# EAGLE library part 74HC139 (library Bauteile)
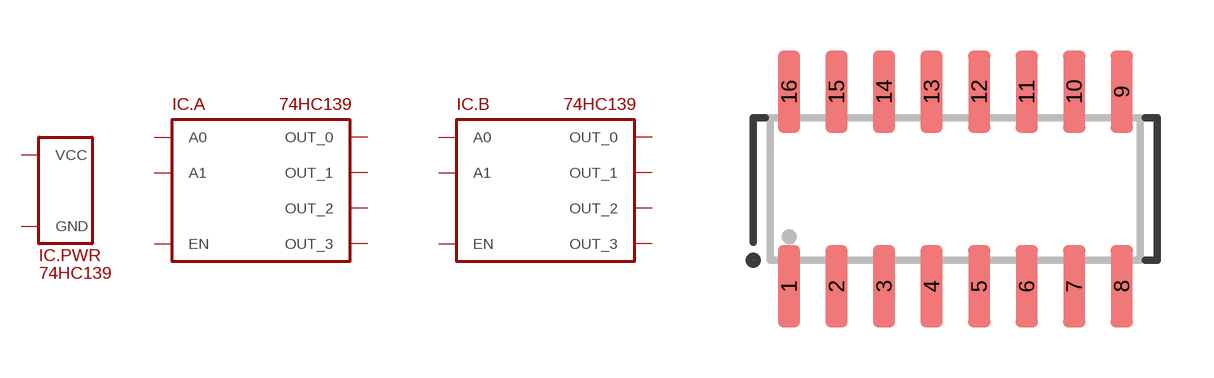
[diagram p67: symbol with the pads of SO16; footprint SO16]

Designator prefix IC; gates .PWR=SUPPLY_VCC/GND .A=DEMULTIPLEXER_1_TO_4 .B=DEMULTIPLEXER_1_TO_4

## 74HC139  [SO16]
1  .A:EN
2  .A:A0
3  .A:A1
4  .A:OUT_0
5  .A:OUT_1
6  .A:OUT_2
7  .A:OUT_3
8  .PWR:GND
9  .B:OUT_3
10  .B:OUT_2
11  .B:OUT_1
12  .B:OUT_0
13  .B:A1
14  .B:A0
15  .B:EN
16  .PWR:VCC

## Footprint SO16 (pad centres in mm)
smd 0.6 x 2.2: 1 -4.445,-2.6; 2 -3.175,-2.6; 3 -1.905,-2.6; 4 -0.635,-2.6; 5 0.635,-2.6; 6 1.905,-2.6; 7 3.175,-2.6; 8 4.445,-2.6; 9 4.445,2.6; 10 3.175,2.6; 11 1.905,2.6; 12 0.635,2.6; 13 -0.635,2.6; 14 -1.905,2.6; 15 -3.175,2.6; 16 -4.445,2.6